# Altium schematic symbol library Button.SchLib: 2 symbols
Pins are listed as number, name and electrical type; pins without a type are passive.

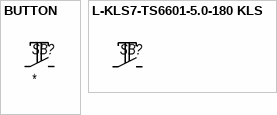
[diagram p0: symbols BUTTON to L-KLS7-TS6601-5.0-180 KLS]

## BUTTON
designator SB?
pins: 1, 2

## L-KLS7-TS6601-5.0-180 KLS
designator SB?  (value not drawn)
footprint TACT_SWITCH_6x6x5
pins: 1, 2